# Altium footprint library GuitarLibrary.PcbLib: 30 footprints (part 1 of 2)
Each footprint in its own frame and in the unit in brackets; x right, y up, seen from the top. Pads: shape width x height; smd on the part's side, far side on the other; paste and mask are expansions set on the pad; w line width, h text height; cw(c..) or ccw(c..) is an arc to the next point about the centre after c.
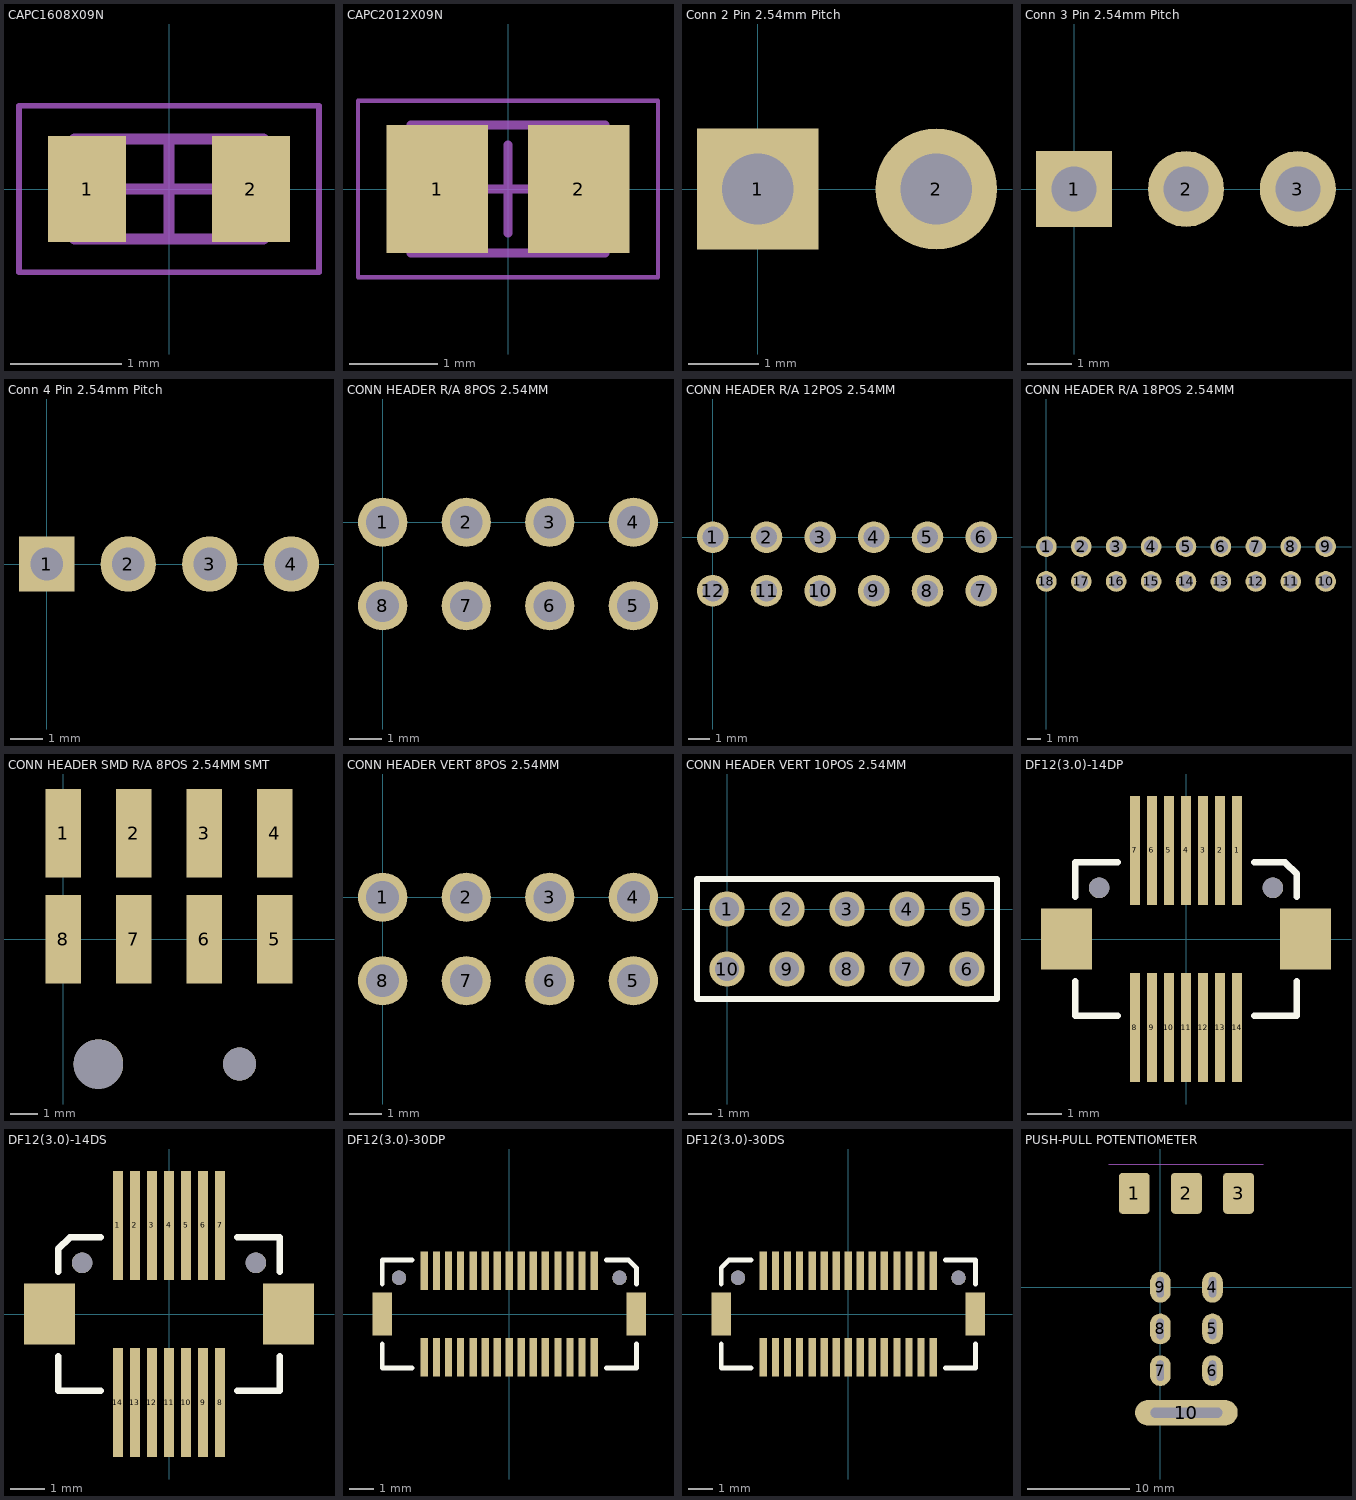
[diagram p0: the footprints below, top view; thin cyan lines are the x and y axes]

## CAPC1608X09N [mm] "Chip Capacitor, 2-Leads, Body 1.60x0.80mm, IPC Medium Density"
height 0.8
pads (2):
  rect 0.7x0.95 smd: 1(-0.737,0) 2(0.738,0)
Mechanical 13:
  lines w0.1: -0.85,-0.45 -0.85,0.45 0.85,0.45 0.85,-0.45 -0.85,-0.45
Mechanical 15:
  lines w0.05: -1.35,-0.75 -1.35,0.75 1.35,0.75 1.35,-0.75 -1.35,-0.75
  lines w0.1: -0.45,0 0.45,0 ; 0,-0.45 0,0.45
3D body "CAPC1608X08N.step": height 0.8, standoff 0, extent -0.85,-0.45 0.85,0.45

## CAPC2012X09N [mm] "Chip Capacitor, 2-Leads, Body 2.00x1.25mm, IPC Medium Density"
height 0.9
pads (2):
  rect 1.15x1.45 smd: 1(-0.8,0) 2(0.8,0)
Mechanical 13:
  lines w0.1: -1.1,-0.725 1.1,-0.725 1.1,0.725 -1.1,0.725 -1.1,-0.725
Mechanical 15:
  lines w0.05: -1.7,-1 1.7,-1 1.7,1 -1.7,1 -1.7,-1
  lines w0.1: -0.5,0 0.5,0 ; 0,-0.5 0,0.5
3D body: height 0.9, standoff 0, extent 0.6,-0.725 1.1,0.725
3D body: height 0.9, standoff 0, extent -1.1,-0.725 -0.6,0.725
3D body: height 0.9, standoff 0, extent -0.6,-0.725 0.6,0.725

## Conn 2 Pin 2.54mm Pitch [mil] "Connector, Through-hole, 2.54mm Pitch"
height 452.76
pads (2):
  rect 68x68 hole 40: 1(0,0)
  round 68 hole 40: 2(100,0)

## Conn 3 Pin 2.54mm Pitch [mil] "Connector, Through-hole, 2.54mm Pitch"
height 452.76
pads (3):
  rect 68x68 hole 40: 1(0,0)
  round 68 hole 40: 2(100,0) 3(200,0)
Mechanical 15:
  lines w3.94: 179.31,0 218.69,0 ; 199,-19.69 199,19.68

## Conn 4 Pin 2.54mm Pitch [mil] "Connector, Through-hole, 2.54mm Pitch"
height 452.76
pads (4):
  rect 68x68 hole 40: 1(0,0)
  round 68 hole 40: 2(100,0) 3(200,0) 4(300,0)
Mechanical 15:
  lines w3.94: 179.31,0 218.69,0 ; 199,-19.69 199,19.68

## CONN HEADER R/A 8POS 2.54MM [mm] "Connector Header Through Hole, Right Angle 8 position 0.100\" (2.54mm)"
height 5
pads (8):
  round 1.5 hole 1: 1(0,0) 2(2.54,0) 3(5.08,0) 4(7.62,0) 5(7.62,-2.54) 6(5.08,-2.54) 7(2.54,-2.54) 8(0,-2.54)
3D body "TSW-104-25-L-D-RA.stp": height 5.54, standoff -2.56, extent -1.27,-14.668 8.89,0.381

## CONN HEADER R/A 12POS 2.54MM [mm] "Connector Header Through Hole, Right Angle 12 position 0.100\" (2.54mm)"
height 5
pads (12):
  round 1.5 hole 1: 1(0,0) 2(2.54,0) 3(5.08,0) 4(7.62,0) 5(10.16,0) 6(12.7,0) 7(12.7,-2.54) 8(10.16,-2.54) 9(7.62,-2.54) 10(5.08,-2.54) 11(2.54,-2.54) 12(0,-2.54)
3D body "TSW-106-08-F-D-RA.stp": height 5.54, standoff -2.31, extent -1.27,-12.432 13.97,0.332

## CONN HEADER R/A 18POS 2.54MM [mm] "Connector Header Through Hole, Right Angle 18 position 0.100\" (2.54mm)"
height 5
pads (18):
  round 1.5 hole 1: 1(0,0) 2(2.54,0) 3(5.08,0) 4(7.62,0) 5(10.16,0) 6(12.7,0) 7(15.24,0) 8(17.78,0) 9(20.32,0) 10(20.32,-2.54) 11(17.78,-2.54) 12(15.24,-2.54) 13(12.7,-2.54) 14(10.16,-2.54) 15(7.62,-2.54) 16(5.08,-2.54) 17(2.54,-2.54) 18(0,-2.54)
3D body "TSW-109-08-T-D-RA.stp": height 5.54, standoff -2.31, extent -1.27,-12.382 21.59,0.382

## CONN HEADER SMD R/A 8POS 2.54MM SMT [mm] "Connector Header Surface Mount, Right Angle 8 position 0.100\" (2.54mm)"
height 6.1
pads (10):
  rect 1.27x3.18 smd: 1(0,3.81) 2(2.54,3.81) 3(5.08,3.81) 4(7.62,3.81) 5(7.62,0) 6(5.08,0) 7(2.54,0) 8(0,0)
  round 1.78 hole 1.78: ""(1.27,-4.496)
  round 1.19 hole 1.19: ""(6.35,-4.496)
3D body "TSM-104-01-L-DH.stp": height 6.07, standoff -0.02, extent -1.27,-11.43 8.89,4.826

## CONN HEADER VERT 8POS 2.54MM [mm] "Connector Header Through Hole 8 position 0.100\" (2.54mm)"
height 5
pads (8):
  round 1.5 hole 1: 1(0,0) 2(2.54,0) 3(5.08,0) 4(7.62,0) 5(7.62,-2.54) 6(5.08,-2.54) 7(2.54,-2.54) 8(0,-2.54)
3D body "TSW-104-07-F-D.stp": height 8.38, standoff -2.54, extent -1.27,-3.81 8.89,1.27

## CONN HEADER VERT 10POS 2.54MM [mm] "Connector Header Through Hole 10 position 0.100\" (2.54mm)"
height 5
pads (10):
  round 1.5 hole 1: 1(0,0) 2(2.54,0) 3(5.08,0) 4(7.62,0) 5(10.16,0) 6(10.16,-2.54) 7(7.62,-2.54) 8(5.08,-2.54) 9(2.54,-2.54) 10(0,-2.54)
Top Overlay:
  lines w0.254: -1.27,-3.81 -1.27,1.27 11.43,1.27 11.43,-3.81 -1.27,-3.81
3D body "TSW-105-07-F-D.stp": height 8.38, standoff -2.54, extent -1.27,-3.81 11.43,1.27

## DF12(3.0)-14DP [mm] "CONN HEADER 14POS 3MM SMD 0.5MM"
height 2.3
pads (18):
  rect 0.3x3.2 smd mask+0.051: 1(1.5,2.6) 2(1,2.6) 3(0.5,2.6) 4(0,2.6) 5(-0.5,2.6) 6(-1,2.6) 7(-1.5,2.6) 8(-1.5,-2.6) 9(-1,-2.6) 10(-0.5,-2.6) 11(0,-2.6) 12(0.5,-2.6) 13(1,-2.6) 14(1.5,-2.6)
  rect 1.5x1.8 smd mask+0.102: ""(-3.5,0)
  round 0.6 hole 0.6 unplated mask+0: ""(-2.55,1.5) ""(2.55,1.5)
  rect 1.5x1.8 smd: ""(3.5,0)
Top Overlay:
  lines w0.2: -3.25,-1.25 -3.25,-2.25 -2,-2.25 ; -3.25,1.25 -3.25,2.25 -2,2.25 ; 2,-2.25 3.25,-2.25 3.25,-1.25 ; 2,2.25 2.905,2.25 3.25,1.905 3.25,1.25
Multi-Layer:
  region: -4,1
3D body "DF12(3.0)-14DP-0.5V.stp": height 2.29, standoff -0.61, extent -3.3,-2.29 3.3,2.31

## DF12(3.0)-14DS [mm] "CONN RECEPT 14POS 3MM SMD 0.5MM"
height 2.2
pads (18):
  rect 0.3x3.2 smd mask+0.051: 1(-1.5,2.6) 2(-1,2.6) 3(-0.5,2.6) 4(0,2.6) 5(0.5,2.6) 6(1,2.6) 7(1.5,2.6) 8(1.5,-2.6) 9(1,-2.6) 10(0.5,-2.6) 11(0,-2.6) 12(-0.5,-2.6) 13(-1,-2.6) 14(-1.5,-2.6)
  rect 1.5x1.8 smd mask+0.102: ""(-3.5,0)
  round 0.6 hole 0.6 unplated mask+0: ""(-2.55,1.5) ""(2.55,1.5)
  rect 1.5x1.8 smd: ""(3.5,0)
Top Overlay:
  lines w0.2: -3.25,-1.25 -3.25,-2.25 -2,-2.25 ; -3.25,1.25 -3.25,1.905 -2.905,2.25 -2,2.25 ; 2,-2.25 3.25,-2.25 3.25,-1.25 ; 2,2.25 3.25,2.25 3.25,1.25
Multi-Layer:
  region: -4,1
3D body "DF12(3.0)-14DS-0.5V.stp": height 2.19, standoff -0.61, extent -3.3,-2.3 3.3,2.3

## DF12(3.0)-30DP [mm] "CONN HEADER 30POS 3MM SMD 0.5MM"
height 2.3
pads (34):
  rect 0.3x1.6 smd mask+0.051: 1(3.532,1.8) 2(3.024,1.8) 3(2.524,1.8) 4(2.024,1.8) 5(1.5,1.8) 6(1,1.8) 7(0.5,1.8) 8(0,1.8) 9(-0.5,1.8) 10(-1,1.8) 11(-1.5,1.8) 12(-2.024,1.8) 13(-2.524,1.8) 14(-3.024,1.8) 15(-3.532,1.8) 16(-3.532,-1.8) 17(-3.024,-1.8) 18(-2.524,-1.8) 19(-2.024,-1.8) 20(-1.5,-1.8) 21(-1,-1.8) 22(-0.5,-1.8) 23(0,-1.8) 24(0.5,-1.8) 25(1,-1.8) 26(1.5,-1.8) 27(2.024,-1.8) 28(2.524,-1.8) 29(3.024,-1.8) 30(3.532,-1.8)
  rect 0.8x1.8 smd mask+0.102: ""(-5.282,0)
  round 0.6 hole 0.6 unplated mask+0: ""(-4.582,1.5) ""(4.582,1.5)
  rect 0.8x1.8 smd: ""(5.282,0)
Top Overlay:
  lines w0.2: -5.282,-1.25 -5.282,-2.25 -4.032,-2.25 ; -5.282,1.25 -5.282,2.25 -4.032,2.25 ; 4.032,-2.25 5.282,-2.25 5.282,-1.25 ; 4.032,2.25 4.953,2.25 5.282,1.921 5.282,1.25
Multi-Layer:
  region: -6.286,1
3D body "DF12(3.0)-30DP.stp": height 2.3, standoff -0.6, extent -5.3,-2.3 5.3,2.3

## DF12(3.0)-30DS [mm] "CONN RCPT 30POS SMD 0.5MM"
height 2.2
pads (34):
  rect 0.3x1.6 smd mask+0.051: 1(-3.532,1.8) 2(-3.024,1.8) 3(-2.524,1.8) 4(-2.024,1.8) 5(-1.5,1.8) 6(-1,1.8) 7(-0.5,1.8) 8(0,1.8) 9(0.5,1.8) 10(1,1.8) 11(1.5,1.8) 12(2.024,1.8) 13(2.524,1.8) 14(3.024,1.8) 15(3.532,1.8) 16(3.532,-1.8) 17(3.024,-1.8) 18(2.524,-1.8) 19(2.024,-1.8) 20(1.5,-1.8) 21(1,-1.8) 22(0.5,-1.8) 23(0,-1.8) 24(-0.5,-1.8) 25(-1,-1.8) 26(-1.5,-1.8) 27(-2.024,-1.8) 28(-2.524,-1.8) 29(-3.024,-1.8) 30(-3.532,-1.8)
  rect 0.8x1.8 smd mask+0.102: ""(-5.282,0)
  round 0.6 hole 0.6 unplated mask+0: ""(-4.582,1.5) ""(4.582,1.5)
  rect 0.8x1.8 smd: ""(5.282,0)
Top Overlay:
  lines w0.2: -5.282,-1.25 -5.282,-2.25 -4.032,-2.25 ; -5.282,1.25 -5.282,1.921 -4.953,2.25 -4.032,2.25 ; 4.032,-2.25 5.282,-2.25 5.282,-1.25 ; 4.032,2.25 5.282,2.25 5.282,1.25
Multi-Layer:
  region: -6.286,1
3D body "DF12(3.0)-30DS-0.5V.stp": height 2.2, standoff -0.6, extent -5.3,-2.3 5.3,2.3

## PUSH-PULL POTENTIOMETER [mm] "Push Pull Potentiometer"
pads (10):
  rrect25% 3x4 smd: 1(-2.54,9.144) 2(2.54,9.144) 3(7.62,9.144)
  oval 2x3 hole 2 slot 0.7 at 0 deg: 4(5.08,0) 5(5.08,-4.064) 6(5.08,-8.128) 7(0,-8.128) 8(0,-4.064) 9(0,0)
  oval 10x2.5 hole 1 slot 7 at 0 deg: 10(2.54,-12.22)
Mechanical 13:
  lines w0.1: -5,12 10,12